# Altium schematic symbol library Components_UNO.SchLib: 36 symbols
Pins are listed as number, name and electrical type; pins without a type are passive.

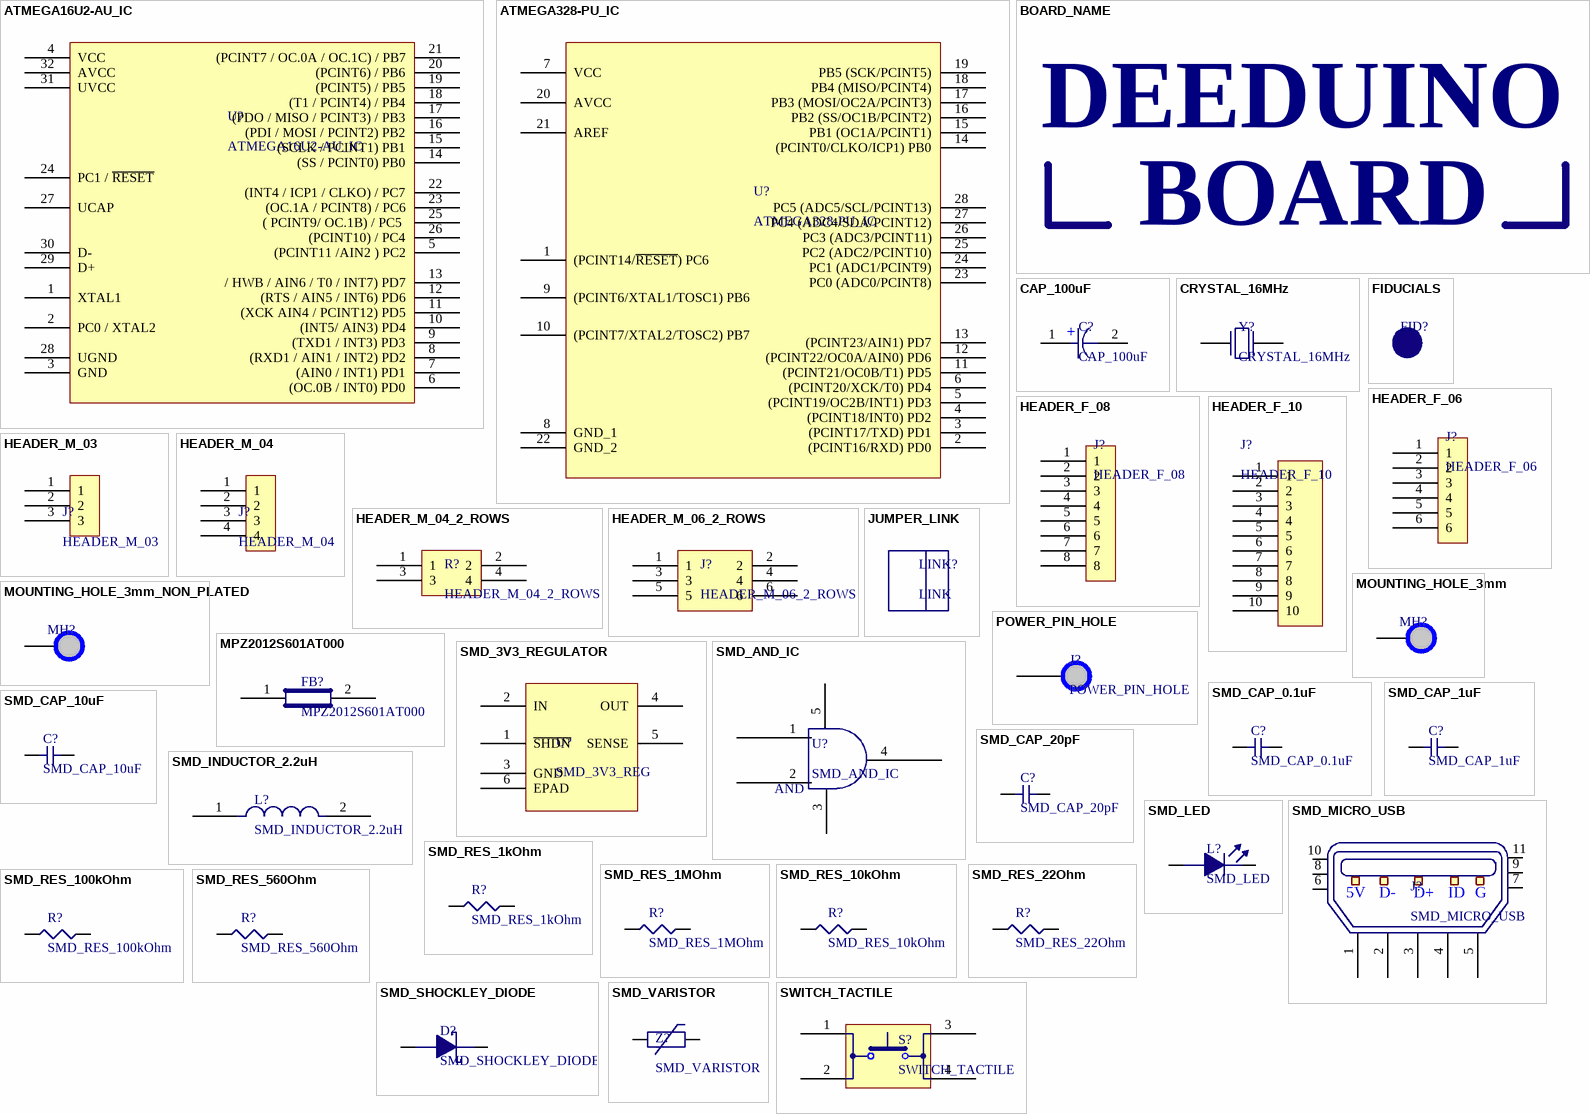
[diagram p0: symbols ATMEGA16U2-AU_IC to SWITCH_TACTILE]

## ATMEGA16U2-AU_IC
designator U?
Manufacturer: Microchip; Categories: Integrated Circuits (ICs); Core Processor: AVR; Core Size: 8-Bit; Speed: 16MHz; Connectivity: SPI, UART/USART, USB; Peripherals: Brown-out Detect/Reset, POR, PWM, WDT; Number of I/O: 22; Program Memory Size: 16KB (8K x 16); Program Memory Type: FLASH; EEPROM Size: 512 x 8; Voltage - Supply (Vcc/Vdd): 2.7V ~ 5.5V; Oscillator Type: Internal; Supplier 1: Digi-Key; Manufacturer Part Number: ATMEGA16U2-AU; Stock 1: 3450; Pricing 1: 1=2.52, 25=2.3176, 100=2.1012 (USD); Packaging: Tray; Part Status: Active; RAM Size: 512 x 8; Data Converters: -; Operating Temperature: -40°C ~ 85°C (TA); Package / Case: 32-TQFP; Supplier Device Package: 32-TQFP (7x7); Series: AVR® ATmega; Supplier Part Number 1: ATMEGA16U2-AU-ND
footprint ATMEGA16U2
pins: 1 XTAL1, 2 PC0 / XTAL2, 3 GND, 4 VCC, 5 (PCINT11 /AIN2 ) PC2, 6 (OC.0B / INT0) PD0, 7 (AIN0 / INT1) PD1, 8 (RXD1 / AIN1 / INT2) PD2, 9 (TXD1 / INT3) PD3, 10 (INT5/ AIN3) PD4, 11 (XCK AIN4 / PCINT12) PD5, 12 (RTS / AIN5 / INT6) PD6, 13 / HWB / AIN6 / T0 / INT7) PD7, 14 (SS / PCINT0) PB0, 15 (SCLK / PCINT1) PB1, 16 (PDI / MOSI / PCINT2) PB2, 17 (PDO / MISO / PCINT3) / PB3, 18 (T1 / PCINT4) / PB4, 19 (PCINT5) / PB5, 20 (PCINT6) / PB6, 21 (PCINT7 / OC.0A / OC.1C) / PB7, 22 (INT4 / ICP1 / CLKO) / PC7, 23 (OC.1A / PCINT8) / PC6, 24 PC1 / ~{RESET}, 25 ( PCINT9/ OC.1B) / PC5 , 26 (PCINT10) / PC4, 27 UCAP, 28 UGND hidden, 28 UGND, 29 D+, 30 D-, 31 UVCC, 32 AVCC

## ATMEGA328-PU_IC
designator U?
Manufacturer: Microchip / Atmel; Family Name: ATmega; Device Core: AVR; Data Bus Width: 8bit; Program Memory Size: 32 kB; Maximum Frequency: 20MHz; RAM Size: 1 kB, 2 kB; Number of PWM Units: 1; ADC Channels: 6; Typical Operating Supply Voltage: 1.8 → 5.5 V; ADCs: 6 x 10 bit; Number of Timers: 3; ADC Resolution: 10bit; Timer Resolution: 8 bit, 16 bit; Pulse Width Modulation: 1(6 Channel); Timers: 1 x 16 bit, 2 x 8 bit; Instruction Set Architecture: RISC; Program Memory Type: Flash; Supplier 1: Digi-Key; Manufacturer Part Number: ATMEGA328-PU; Stock 1: 6598; Pricing 1: 1=1.96, 25=1.7924, 100=1.6274 (USD); Package Type: PDIP; Mounting Type: Through Hole; Pin Count: 28; Number of SPI Channels: 1; Width: 7.49mm; Number of USART Channels: 1; Number of ADC Units: 1; Minimum Operating Temperature: -40 °C; Length: 34.8mm; Maximum Operating Temperature: +85 °C; Height: 4.572mm; Number of I2C Channels: 1; PWM Channels: 6; Dimensions: 34.8 x 7.49 x 4.572mm; ComponentLink1URL: http://www.rapidonline.com/pdf/73-4281.pdf; ComponentLink1Description: http://www.rapidonline.com/pdf/73-4281.pdf; ComponentLink2URL: http://www.farnell.com/datasheets/2047852.pdf; ComponentLink2Description: http://www.farnell.com/datasheets/2047852.pdf; Supplier Part Number 1: ATMEGA328-PU-ND
footprint ATMEGA328P
pins: 1 (PCINT14/~{RESET}) PC6, 2 (PCINT16/RXD) PD0, 3 (PCINT17/TXD) PD1, 4 (PCINT18/INT0) PD2, 5 (PCINT19/OC2B/INT1) PD3, 6 (PCINT20/XCK/T0) PD4, 7 VCC, 8 GND_1, 9 (PCINT6/XTAL1/TOSC1) PB6, 10 (PCINT7/XTAL2/TOSC2) PB7, 11 (PCINT21/OC0B/T1) PD5, 12 (PCINT22/OC0A/AIN0) PD6, 13 (PCINT23/AIN1) PD7, 14 (PCINT0/CLKO/ICP1) PB0, 15 PB1 (OC1A/PCINT1), 16 PB2 (SS/OC1B/PCINT2), 17 PB3 (MOSI/OC2A/PCINT3), 18 PB4 (MISO/PCINT4), 19 PB5 (SCK/PCINT5), 20 AVCC, 21 AREF, 22 GND_2, 23 PC0 (ADC0/PCINT8), 24 PC1 (ADC1/PCINT9), 25 PC2 (ADC2/PCINT10), 26 PC3 (ADC3/PCINT11), 27 PC4 (ADC4/SDA/PCINT12), 28 PC5 (ADC5/SCL/PCINT13)

## BOARD_NAME
designator *  (value not drawn)  (mechanical)
text: DEEDUINO; BOARD

## CAP_100uF
designator C?
Manufacturer: Nichicon; Manufacturer Part Number: UFW1C101MDD1TD; Dynamic Catalog: FW Series; Catalog Drawings: FW, KW Series Bottom_16 and 18 / FW, KW Series_18 x 35.5; Capacitance: 100µF; Tolerance: ±20%; Voltage Rating: 16V; Lifetime @ Temp.: 2000 Hrs @ 85°C; Ripple Current: 155mA; Other Names: 493-10975-1; Supplier 1: Digi-Key; Stock 1: 7837; Pricing 1: 1=0.24, 10=0.167, 100=0.0946, 500=0.0668, 1000=0.0584 (USD); Standard Package: 1; Category: Capacitors; Family: Aluminum Capacitors; Series: FW; Packaging: Cut Tape (CT); Operating Temperature: -40°C ~ 85°C; Applications: Audio; Lead Spacing: 0.079" (2.00mm); Size / Dimension: 0.197" Dia (5.00mm); Height - Seated (Max): 0.492" (12.50mm); Mounting Type: Through Hole; Package / Case: Radial, Can; Online Catalog: FW Series; ComponentLink1URL: http://nichicon-us.com/english/products/pdfs/e-ufw.pdf?src-supplier=Digi-Key; ComponentLink1Description: http://nichicon-us.com/english/products/pdfs/e-ufw.pdf?src-supplier=Digi-Key; ComponentLink2URL: https://gp1.wpc.edgecastcdn.net/00AC62/drawings/XCT-HMAN079CST.pdf?src-supplier=Digi-Key; ComponentLink2Description: https://gp1.wpc.edgecastcdn.net/00AC62/drawings/XCT-HMAN079CST.pdf?src-supplier=Digi-Key; Supplier Part Number 1: 493-10975-1-ND
footprint CAP_16V
pins: 1, 2
text: +

## CRYSTAL_16MHz
designator Y?
Manufacturer: ECS International; Manufacturer Part Number: ECS-160-20-4X; Brand: ECS; Case Height: 3.5 mm; Case Length: 11.35 mm; Case Width: 4.65 mm; Frequency: 16 MHz; Frequency Stability: 50 PPM; Load Capacitance: 20 pF; Tolerance: 30 PPM; Dimensions: 4.65 mm W x 11.35 mm L x 3.5 mm H; Factory Pack Quantity: 200; Package / Case: HC-49/US; Operating Temperature Range: - 10 C to + 70 C; Packaging: Bulk; Mounting Style: Through Hole; Product Category: Crystals; RoHS: Details; Termination Style: Radial; Series: HCS49USX; Type: Quartz Crystals; ComponentLink1URL: http://www.ecsxtal.com/store/pdf/partnumber4.pdf?src-supplier=Digi-Key; ComponentLink1Description: http://www.ecsxtal.com/store/pdf/partnumber4.pdf?src-supplier=Digi-Key; Supplier 1: Digi-Key; Supplier Part Number 1: 887-2014-ND
footprint CRYSTAL_16MHz
pins: 1, 2

## FIDUCIALS
designator FID?  (value not drawn)  (no BOM)
footprint FIDUCIALS

## HEADER_F_06
designator J?
Manufacturer: Harwin; Manufacturer Part Number: M20-7820646; Rad Hard: No; Pitch: 2.54 mm; Number of Contacts: 6; Gender: SKT; Supplier 1: Digi-Key; Stock 1: 3428; Pricing 1: 1=0.96, 36=0.7919, 108=0.726, 504=0.594, 1008=0.528, 5004=0.462, 10008=0.4389 (USD); Contact Plating: Tin; Type: Socket Strip; Number of Rows: 1; Termination Method: Solder; Category: Connector Headers and PCB Receptacles; Supplier Part Number 1: 952-1809-ND
footprint HEADER_F_06
pins: 1, 2, 3, 4, 5, 6

## HEADER_F_08
designator J?
Manufacturer: Sullins; Manufacturer Part Number: PPTC081LFBN-RC; Catalog Drawings: PPTC,PPPC Series Straight / PPTC,PPPC Series Footprint; Connector Type: Header; Number of Positions: 8; Number of Positions Loaded: All; Pitch: 0.100" (2.54mm); Dynamic Catalog: PP Series; Mating Products: S1143E-08-ND / - CONN HEADER 8POS .100 RT/A SMD / S1123E-08-ND / - CONN HEADER 8POS .100 RT/A SMD / S1133E-08-ND / - CONN HEADER 8POS .100 RT/A SMD / S1113E-08-ND / - CONN HEADER 8POS .100 RT/A SMD / S1043E-08-ND / - CONN HEADER 8POS .100 SINGLE SMD / S1023E-08-ND / - CONN HEADER 8POS .100 SINGLE SMD / S1033E-08-ND / - CONN HEADER 8POS .100 SINGLE SMD / S1013E-08-ND / - CONN HEADER 8POS .100 SINGLE SMD / S1321E-08-ND / - CONN HEADER .100 SINGL R/A 8POS / S1311E-08-ND / - CONN HEADER .100 SINGL R/A 8POS / More...; Other Names: S7006; Supplier 1: Digi-Key; Stock 1: 43662; Pricing 1: 1=0.65, 10=0.608, 400=0.4253, 800=0.3645, 1200=0.3341, 5200=0.2936, 10000=0.2925 (USD); Standard Package: 1,000; Category: Connectors, Interconnects; Family: Rectangular Connectors - Headers, Receptacles, Female Sockets; Contact Type: Female Socket; Number of Rows: 1; Mounting Type: Through Hole; Termination: Solder; Contact Finish: Tin; Color: Black; Packaging: Bulk; Supplier Part Number 1: S7006-ND
footprint HEADER_F_08
pins: 1, 2, 3, 4, 5, 6, 7, 8

## HEADER_F_10
designator J?
Manufacturer: Sullins; Manufacturer Part Number: PPTC101LFBN-RC; Catalog Drawings: PPTC,PPPC Series Straight / PPTC,PPPC Series Footprint; Connector Type: Header; Number of Positions: 10; Number of Positions Loaded: All; Pitch: 0.100" (2.54mm); Dynamic Catalog: PP Series; Mating Products: PEC10SBAN-ND / - CONN HEADER .100 SINGL R/A 10POS / S1143E-10-ND / - CONN HEADER 10POS .100 RT/A SMD / S1123E-10-ND / - CONN HEADER 10POS .100 RT/A SMD / S1133E-10-ND / - CONN HEADER 10POS .100 RT/A SMD / S1113E-10-ND / - CONN HEADER 10POS .100 RT/A SMD / S1043E-10-ND / - CONN HEADER 10PS .100 SINGLE SMD / S1023E-10-ND / - CONN HEADER 10PS .100 SINGLE SMD / S1033E-10-ND / - CONN HEADER 10PS .100 SINGLE SMD / S1013E-10-ND / - CONN HEADER 10PS .100 SINGLE SMD / S1321E-10-ND / - CONN HEADER .100 SINGL R/A 10POS / More; Other Names: S7008; Supplier 1: Digi-Key; Stock 1: 21645; Pricing 1: 1=0.65, 10=0.574, 320=0.45, 640=0.405, 1280=0.36, 5120=0.325 (USD); Standard Package: 1,000; Category: Connectors, Interconnects; Family: Rectangular Connectors - Headers, Receptacles, Female Sockets; Contact Type: Female Socket; Number of Rows: 1; Mounting Type: Through Hole; Termination: Solder; Contact Finish: Tin; Color: Black; Packaging: Bulk; Supplier Part Number 1: S7008-ND
footprint HEADER_F_10
pins: 1, 2, 3, 4, 5, 6, 7, 8, 9, 10

## HEADER_M_03
designator J?
Manufacturer: Wurth Electronics; Manufacturer Part Number: 61300311121; Connector Type: Header, Unshrouded; Number of Positions: 3; Number of Positions Loaded: All; Pitch: 0.100" (2.54mm); Supplier 1: Digi-Key; Stock 1: 135131; Pricing 1: 1=0.13, 10=0.106, 25=0.088, 50=0.074, 100=0.067, 1000=0.061 (USD); Category: Connectors, Interconnects; Family: Rectangular Connectors - Headers, Male Pins; Series: WR-PHD; Packaging: Bulk; Contact Type: Male Pin; Number of Rows: 1; Row Spacing: -; Contact Mating Length: 0.236" (6.00mm); Mounting Type: Through Hole; Termination: Solder; Fastening Type: -; Features: -; Contact Finish: Gold; Contact Finish Thickness: -; Color: Black; Supplier Part Number 1: 732-5316-ND
footprint HEADER_M_03
pins: 1, 2, 3

## HEADER_M_04
designator J?
Manufacturer: Wurth Electronics; Manufacturer Part Number: 61300311121; Connector Type: Header, Unshrouded; Number of Positions: 4; Number of Positions Loaded: All; Pitch: 0.100" (2.54mm); Category: Connectors, Interconnects; Family: Rectangular Connectors - Headers, Male Pins; Series: WR-PHD; Packaging: Bulk; Contact Type: Male Pin; Number of Rows: 1; Row Spacing: -; Contact Mating Length: 0.236" (6.00mm); Mounting Type: Through Hole; Termination: Solder; Fastening Type: -; Features: -; Contact Finish: Gold; Contact Finish Thickness: -; Color: Black; Supplier 1: Digi-Key; Supplier Part Number 1: 732-5317-ND
footprint HEADER_M_04
pins: 1, 2, 3, 4

## HEADER_M_04_2_ROWS
designator R?
Manufacturer: Harwin; Manufacturer Part Number: M20-9760246; Number of Positions / Contacts: 4; Pitch: 2.54 mm; Mounting Angle: Vertical; Current Rating: 3 A; Voltage Rating: 750 V; Supplier 1: Digi-Key; Stock 1: 6647; Pricing 1: 1=0.19, 10=0.179, 100=0.1102, 500=0.0912, 1000=0.0798, 5000=0.0684, 10000=0.0665 (USD); Mounting Style: Panel; Product Category: Headers & Wire Housings; RoHS: Details; Brand: Harwin; Series: M20; Product Type: Headers; Type: Pin Strip; Number of Positions: 4; Number of Rows: 2; Contact Plating: Tin; Housing Material: Nylon; Termination Style: Through Hole; Factory Pack Quantity: 1000; Supplier Part Number 1: 952-1772-ND
footprint HEADER_M_04_2_ROWS
pins: 1, 2, 3, 4

## HEADER_M_06_2_ROWS
designator J?
Manufacturer: Harwin; Manufacturer Part Number: M20-9980346; Connector Type: Header, Unshrouded, Breakaway; Number of Positions: 6; Number of Positions Loaded: All; Pitch: 0.100" (2.54mm); Supplier 1: Digi-Key; Stock 1: 42135; Pricing 1: 1=0.24, 10=0.229, 100=0.1586, 500=0.1342, 1000=0.1098, 5000=0.0976, 10000=0.0885 (USD); Category: Connectors, Interconnects; Family: Rectangular Connectors - Headers, Male Pins; Series: M20; Packaging: Bulk; Contact Type: Male Pin; Number of Rows: 2; Row Spacing: 0.100" (2.54mm); Contact Mating Length: 0.240" (6.10mm); Mounting Type: Through Hole; Termination: Solder; Fastening Type: -; Features: -; Contact Finish: Tin; Contact Finish Thickness: -; Color: Black; ComponentLink1URL: http://uk.rs-online.com/webdocs/1406/0900766b81406898.pdf?src-supplier=RSComponents; ComponentLink1Description: http://uk.rs-online.com/webdocs/1406/0900766b81406898.pdf?src-supplier=RSComponents; ComponentLink2URL: https://www.verical.com/server-webapp/html/getDatasheet?partID=483857&src-supplier=Verical; ComponentLink2Description: https://www.verical.com/server-webapp/html/getDatasheet?partID=483857&src-supplier=Verical; ComponentLink3URL: http://www.farnell.com/cad/112195.pdf?src-supplier=Element14; ComponentLink3Description: http://www.farnell.com/cad/112195.pdf?src-supplier=Element14; Supplier Part Number 1: 952-2121-ND
footprint HEADER_M_06_2_ROWS
pins: 1, 2, 3, 4, 5, 6

## JUMPER_LINK
designator LINK?, comment LINK  (mechanical)
Manufacturer: Sullins; Manufacturer Part Number: QPC02SXGN-RC; Gender: Female Sockets; Number of Positions or Pins (Grid): 2 (1 x 2); Pitch: 0.100" (2.54mm); Dynamic Catalog: Shunts and Jumpers - Sullins Connector Solutions; Other Names: S9337; Supplier 1: Digi-Key; Stock 1: 520116; Pricing 1: 1=0.1, 10=0.059, 25=0.044, 50=0.0378, 100=0.0365, 250=0.0315, 500=0.0302, 1000=0.0265, 2500=0.0239 (USD); Standard Package: 2,000; Category: Connectors, Interconnects; Family: Shunts, Jumpers; Type: Open Top; Height: 0.235" (5.97mm); Contact Finish: Gold; Contact Finish Thickness: Flash; Packaging: Bulk; ComponentLink1URL: https://s3.amazonaws.com/catalogspreads-pdf/PAGE128-129%20.100%20JUMPER.pdf?src-supplier=Digi-Key; ComponentLink1Description: https://s3.amazonaws.com/catalogspreads-pdf/PAGE128-129%20.100%20JUMPER.pdf?src-supplier=Digi-Key; Supplier Part Number 1: S9337-ND

## MOUNTING_HOLE_3mm
designator MH?  (value not drawn)  (no BOM)
footprint MOUNTING_HOLE_3mm
pins: 1

## MOUNTING_HOLE_3mm_NON_PLATED
designator MH?  (value not drawn)  (no BOM)
footprint MOUNTING_HOLE_3mm_NONPLATED
pins: 1

## MPZ2012S601AT000
designator FB?
Manufacturer: TDK; PCN Part Number: MMZ,MPS Series Oct/2014; Product Training Modules: EMC Components; Catalog Drawings: (MMZ,MPZ)2012 Series Top / (MMZ,MPZ)2012 Series Footprint / (MMZ,MPZ)2012 Series Side; Impedance @ Frequency: 600 Ohm @ 100MHz; Current Rating: 2A; DC Resistance (DCR): 100 mOhm Max; Filter Type: Differential Mode - Single; Online Catalog: MPZ2012 Series; Other Names: 445-2206-6; Supplier 1: Digi-Key; Manufacturer Part Number: MPZ2012S601AT000; Stock 1: 407717; Pricing 1: 1=0.11, 10=0.091, 25=0.0704, 50=0.0584, 100=0.0503, 250=0.0403, 500=0.0362, 1000=0.0302 (USD); Standard Package: 1; Category: Filters; Family: Ferrite Beads and Chips; Series: MPZ; Packaging: Digi-Reel®; Package / Case: 0805 (2012 Metric); Mounting Type: Surface Mount; Height (Max): 0.041" (1.05mm); Size / Dimension: 0.079" L x 0.049" W (2.00mm x 1.25mm); ComponentLink1URL: https://media.digikey.com/pdf/Data%20Sheets/TDK%20PDFs/MPZ_Series_Br.pdf?src-supplier=Digi-Key; ComponentLink1Description: https://media.digikey.com/pdf/Data%20Sheets/TDK%20PDFs/MPZ_Series_Br.pdf?src-supplier=Digi-Key; ComponentLink2URL: https://product.tdk.com/info/en/catalog/datasheets/beads_commercial_power_mpz2012_en.pdf?src-supplier=Digi-Key; ComponentLink2Description: https://product.tdk.com/info/en/catalog/datasheets/beads_commercial_power_mpz2012_en.pdf?src-supplier=Digi-Key; Supplier Part Number 1: 445-2206-1-ND
footprint CAP_SMD_0805
pins: 1, 2

## POWER_PIN_HOLE
designator J?
footprint POWER_HOLE
pins: 1

## SMD_3V3_REGULATOR
designator U?, comment SMD_3V3_REG
Manufacturer: Texas Instruments; Manufacturer Part Number: TL1963A-33DCQR; Voltage Regulator Type: LDO; Regulator Output Type: Fixed; Polarity Type: Positive; Number of Outputs: 1; Input Voltage (Min): 1.9V; Input Voltage: 20V; Output Voltage: 3.3V; Output Current: 1.5A; Load Regulation: 20mV; Line Regulation: 10mV; Supplier 1: Digi-Key; Stock 1: 5330; Pricing 1: 1=2.88, 10=2.589, 100=2.121, 500=1.8055, 1000=1.5228 (USD); Topology: LDO; Package Type: SOT-223; Packaging: Tape and Reel; Operating Temp Range: -40C to 125C; Operating Temperature Classification: Automotive; Pin Count: 5 +Tab; Mounting: Surface Mount; ComponentLink1URL: http://www.ti.com/lit/ds/symlink/tl1963a.pdf?src-supplier=Digi-Key; ComponentLink1Description: http://www.ti.com/lit/ds/symlink/tl1963a.pdf?src-supplier=Digi-Key; ComponentLink2URL: http://www.ti.com/lit/ds/symlink/tl1963a.pdf?src-supplier=Avnet+Europe; ComponentLink2Description: http://www.ti.com/lit/ds/symlink/tl1963a.pdf?src-supplier=Avnet+Europe; Supplier Part Number 1: 296-24534-1-ND
footprint 3V3_REGULATOR_SMD
pins: 1 ~{SHDN}, 2 IN, 3 GND, 4 OUT, 5 SENSE, 6 EPAD

## SMD_AND_IC
designator U?
Manufacturer: Texas Instruments; Manufacturer Part Number: SN74AHC1G09DBVR; Logic Type: AND Gate; Number of Circuits: 1; Number of Inputs: 2; Voltage - Supply: 2 V ~ 5.5 V; Current - Quiescent (Max): 1µA; Current - Output High, Low: -, 8mA; Logic Level - Low: 0.5 V ~ 1.65 V; Logic Level - High: 1.5 V ~ 3.85 V; Max Propagation Delay @ V, Max CL: 7.5ns @ 5V, 50pF; Dynamic Catalog: 74AHC; Other Names: 296-29202-6; Supplier 1: Digi-Key; Stock 1: 39673; Pricing 1: 1=0.43, 10=0.32, 100=0.1996, 500=0.1366, 1000=0.1051 (USD); Standard Package: 1; Category: Integrated Circuits (ICs); Series: 74AHC; Features: Open Drain; Operating Temperature: -55°C ~ 125°C; Mounting Type: Surface Mount; Supplier Device Package: SOT-23-5; Package / Case: SC-74A, SOT-753; Packaging: Digi-Reel®; ComponentLink1URL: http://www.ti.com/lit/ds/symlink/sn74ahc1g09.pdf?src-supplier=Digi-Key; ComponentLink1Description: http://www.ti.com/lit/ds/symlink/sn74ahc1g09.pdf?src-supplier=Digi-Key; Supplier Part Number 1: 296-29202-1-ND; Family: Logic - Gates and Inverters
footprint AND_SMD_IC
pins: 1, 2, 3, 4, 5
text: AND

## SMD_CAP_0.1uF
designator C?
Manufacturer: TDK; Manufacturer Part Number: C2012X7R1H104K125AE; PCN Part Number: CGA,CGJ,CGB,CEU Series 30/Nov/2012; Product Training Modules: C Series Soft Termination Capacitor Family; Featured Product: Soft Termination MLCC; Capacitance: 0.1µF; Tolerance: ±10%; Voltage - Rated: 50V; Temperature Coefficient: X7R; Dynamic Catalog: C Series, Soft Termination; Other Names: 445-15929-6 / C2012X7R1H104K125AEDKR / C2012X7R1H104K125AEDKR-ND; Supplier 1: Digi-Key; Stock 1: 120523; Pricing 1: 1=0.3, 10=0.206, 100=0.1169, 500=0.0825, 1000=0.0722 (USD); Failure Rate: Soft Termination; RoHS Information: RoHS Certificate-MLCC; Standard Package: 1; Category: Capacitors; Family: Ceramic Capacitors; Series: C; Packaging: Digi-Reel®; Mounting Type: Surface Mount, MLCC; Operating Temperature: -55°C ~ 125°C; Applications: Boardflex Sensitive; Ratings: -; Package / Case: 0805 (2012 Metric); Size / Dimension: 0.079" L x 0.047" W (2.00mm x 1.25mm); Height - Seated (Max): -; Thickness (Max): 0.057" (1.45mm); Lead Spacing: -; Features: Soft Termination; Lead Style: -; ComponentLink1URL: https://product.tdk.com/info/en/catalog/spec/mlccspec_commercial_soft_en.pdf?src-supplier=Digi-Key; ComponentLink1Description: https://product.tdk.com/info/en/catalog/spec/mlccspec_commercial_soft_en.pdf?src-supplier=Digi-Key; Supplier Part Number 1: 445-15929-1-ND
footprint CAP_SMD_0805
pins: 1, 2

## SMD_CAP_1uF
designator C?
Manufacturer: Samsung; Manufacturer Part Number: CL21B105KAFNNNE; Capacitance: 1 µF; Dielectric: X7R; Tolerance (%): ±10 %; Rated Voltage: 25 V; Supplier 1: Digi-Key; Stock 1: 1544554; Pricing 1: 1=0.11, 10=0.079, 100=0.0352, 500=0.0252, 1000=0.0198 (USD); Case Size/Dimension: 0805; ComponentLink1URL: https://media.digikey.com/pdf/Data%20Sheets/Samsung%20PDFs/CL_Series_MLCC_ds.pdf?src-supplier=Digi-Key; ComponentLink1Description: https://media.digikey.com/pdf/Data%20Sheets/Samsung%20PDFs/CL_Series_MLCC_ds.pdf?src-supplier=Digi-Key; ComponentLink2URL: https://www.verical.com/server-webapp/html/getDatasheet?partID=355205&src-supplier=Verical; ComponentLink2Description: https://www.verical.com/server-webapp/html/getDatasheet?partID=355205&src-supplier=Verical; Supplier Part Number 1: 1276-1066-1-ND
footprint CAP_SMD_0805
pins: 1, 2

## SMD_CAP_10uF
designator C?
Manufacturer: TDK; Manufacturer Part Number: C2012X5R1C106K085AC; PCN Part Number: MLCC Part Number Change 30/Nov/2012; Product Training Modules: C Series General Applications SEAT, CCV, and TVCL Design Tools Guide to Replacing an Electrolytic Capacitor with an MLCC; Catalog Drawings: C SERIES_2012-0805-1.0; Capacitance: 10µF; Tolerance: ±10%; Voltage - Rated: 16V; Temperature Coefficient: X5R; Online Catalog: C Series, General Purpose; Other Names: 445-7644-6; Supplier 1: Digi-Key; Stock 1: 2002540; Pricing 1: 1=0.23, 10=0.159, 100=0.0899, 500=0.0635, 1000=0.0556 (USD); RoHS Information: RoHS Certificate-MLCC; Standard Package: 1; Category: Capacitors; Family: Ceramic Capacitors; Series: C; Packaging: Digi-Reel®; Mounting Type: Surface Mount, MLCC; Operating Temperature: -55°C ~ 85°C; Applications: General Purpose; Ratings: -; Package / Case: 0805 (2012 Metric); Size / Dimension: 0.079" L x 0.049" W (2.00mm x 1.25mm); Height - Seated (Max): -; Thickness (Max): 0.037" (0.95mm); Lead Spacing: -; Features: -; Lead Style: -; ComponentLink1URL: http://www.mouser.com/ds/2/400/lcc_commercial_general_en-837201.pdf?src-supplier=Mouser; ComponentLink1Description: http://www.mouser.com/ds/2/400/lcc_commercial_general_en-837201.pdf?src-supplier=Mouser; ComponentLink2URL: http://www.farnell.com/datasheets/1913358.pdf?src-supplier=Element14; ComponentLink2Description: http://www.farnell.com/datasheets/1913358.pdf?src-supplier=Element14; ComponentLink3URL: http://www.farnell.com/datasheets/1744655.pdf?src-supplier=Element14; ComponentLink3Description: http://www.farnell.com/datasheets/1744655.pdf?src-supplier=Element14; ComponentLink4URL: https://product.tdk.com/info/en/documents/chara_sheet/C2012X5R1C106K085AC.pdf?src-supplier=Digi-Key; ComponentLink4Description: https://product.tdk.com/info/en/documents/chara_sheet/C2012X5R1C106K085AC.pdf?src-supplier=Digi-Key; ComponentLink5URL: http://product.tdk.com/capacitor/mlcc/en/documents/mlcc_commercial_general_en.pdf?src-supplier=Element14; ComponentLink5Description: http://product.tdk.com/capacitor/mlcc/en/documents/mlcc_commercial_general_en.pdf?src-supplier=Element14; Supplier Part Number 1: 445-7644-1-ND
footprint CAP_SMD_0805
pins: 1, 2

## SMD_CAP_20pF
designator C?
Manufacturer: TDK; Manufacturer Part Number: C0402C0G1C200J; Capacitance: 20pF; Tolerance: ±5%; Voltage - Rated: 16V; Temperature Coefficient: C0G, NP0; Other Names: 445-7167-2 C0402C0G1C200JT00NN; Standard Package: 20,000; Category: Capacitors; Family: Ceramic Capacitors; Series: C; Packaging: Tape & Reel (TR); Mounting Type: Surface Mount, MLCC; Operating Temperature: -55°C ~ 125°C; Applications: General Purpose; Ratings: -; Package / Case: 01005 (0402 Metric); Size / Dimension: 0.016" L x 0.008" W (0.40mm x 0.20mm); Height - Seated (Max): -; Thickness (Max): 0.009" (0.22mm); Lead Spacing: -; Features: -; Lead Style: -; ComponentLink1URL: https://media.digikey.com/pdf/Data%20Sheets/TDK%20PDFs/C_Series_GeneralAppl_B11.pdf?src-supplier=Digi-Key; ComponentLink1Description: https://media.digikey.com/pdf/Data%20Sheets/TDK%20PDFs/C_Series_GeneralAppl_B11.pdf?src-supplier=Digi-Key; Supplier 1: Digi-Key; Supplier Part Number 1: 399-19448-1-ND
footprint CAP_SMD_0805
pins: 1, 2

## SMD_INDUCTOR_2.2uH
designator L?
Manufacturer: KEMET; Manufacturer Part Number: L0805C2R2MDWIT; Case Height: 1.25 mm; Case Length: 2 mm; Inductance: 2.2 uH; Maximum DC Current: 430 mA; Maximum DC Resistance: 330 mOhms; Tolerance: 20 %; Self Resonant Frequency: 70 MHz; Shielding: Shielded; Test Frequency: 7.96 MHz; Type: Wire Wound Inductor - Ceramic or Ferrite; Supplier 1: Digikey; Stock 1: 2850; Pricing 1: 1=0.41, 10=0.356, 100=0.2542, 500=0.2135, 1000=0.1728 (USD); Brand: Kemet; Dimensions: 1.25 mm W x 2 mm L x 1.25 mm H; Case Width: 1.25 mm; Factory Pack Quantity: 3000; Operating Temperature Range: - 25 C to + 105 C; Package / Case: 0805 (2012 metric); Packaging: Reel; Product: Power Inductors; Product Category: Fixed Inductors; RoHS: Details; Termination Style: SMD/SMT; Series: L-DWI; ComponentLink1URL: http://datasheet.octopart.com/L0805C2R2MDWIT-Kemet-datasheet-153804.pdf?src-supplier=Farnell; ComponentLink1Description: http://datasheet.octopart.com/L0805C2R2MDWIT-Kemet-datasheet-153804.pdf?src-supplier=Farnell; Supplier Part Number 1: 399-17797-1-ND
footprint RES_SMD_0805
pins: 1, 2

## SMD_LED
designator L?
Manufacturer: Osram Opto; Manufacturer Part Number: LOL29K-H2K1-24-Z; Categories: Optoelectronics; Color: Orange; Configuration: Standard; Lens Color: White; Lens Transparency: Diffused; Millicandela Rating: 6.3mcd; Lens Style: Rectangle with Flat Top; Lens Size: 1.30mm x 0.80mm; Voltage - Forward (Vf) (Typ): 1.8V; Current - Test: 2mA; Viewing Angle: 160°; Wavelength - Dominant: 606nm; Wavelength - Peak: 610nm; Supplier 1: Digi-Key; Stock 1: 0; Series: SmartLED; Packaging: Digi-Reel®; Part Status: Active; Mounting Type: Surface Mount; Features: -; Package / Case: 0603 (1608 Metric); Supplier Device Package: 0603; Size / Dimension: 1.70mm L x 0.80mm W; Height (Max): 0.65mm; ComponentLink1URL: https://dammedia.osram.info/media/resource/hires/osram-dam-2493882/LO%20L29K.pdf?src-supplier=Digi-Key; ComponentLink1Description: https://dammedia.osram.info/media/resource/hires/osram-dam-2493882/LO%20L29K.pdf?src-supplier=Digi-Key; ComponentLink2URL: https://www.verical.com/server-webapp/html/getDatasheet?partID=693885&src-supplier=Verical; ComponentLink2Description: https://www.verical.com/server-webapp/html/getDatasheet?partID=693885&src-supplier=Verical; Supplier Part Number 1: 475-2740-2-ND
footprint LED_SMD
pins: 1 Cathode, 2 Anode

## SMD_MICRO_USB
designator J?
Manufacturer: Amphenol FCI; Manufacturer Part Number: 10118193-0001LF; Number of Contacts: 5 Contact; Gender: Female; Current Rating: 1.8 A; Brand: FCI; Connector Type: Micro USB Type B receptacle; Insulation Resistance: 1000 MOhms; Mounting Angle: Right; Supplier 1: Digi-Key; Stock 1: 164416; Pricing 1: 1=0.42, 10=0.393, 25=0.3536, 50=0.3144, 100=0.3013, 250=0.2751, 500=0.262 (USD); Product Category: USB Connectors; RoHS: Details; Product: Micro USB Type B Connectors; Standard: USB 2.0; Termination Style: SMD/SMT; Color: Black; Contact Material: Copper Alloy; Contact Plating: Gold; Flammability Rating: UL 94 V-0; Operating Temperature Range: - 55 C to + 85 C; Packaging: Reel; Factory Pack Quantity: 1200; ComponentLink1URL: https://cdn.amphenol-icc.com/media/wysiwyg/files/documentation/datasheet/inputoutput/io_usb_micro.pdf?src-supplier=Digi-Key; ComponentLink1Description: https://cdn.amphenol-icc.com/media/wysiwyg/files/documentation/datasheet/inputoutput/io_usb_micro.pdf?src-supplier=Digi-Key; ComponentLink2URL: https://cdn.amphenol-icc.com/media/wysiwyg/files/documentation/datasheet/inputoutput/io_usb_micro.pdf?src-supplier=Arrow; ComponentLink2Description: https://cdn.amphenol-icc.com/media/wysiwyg/files/documentation/datasheet/inputoutput/io_usb_micro.pdf?src-supplier=Arrow; ComponentLink3URL: http://www.amphenol-icc.com/media/wysiwyg/files/drawing/10118193.pdf?src-supplier=Digi-Key; ComponentLink3Description: http://www.amphenol-icc.com/media/wysiwyg/files/drawing/10118193.pdf?src-supplier=Digi-Key; ComponentLink4URL: https://cdn.amphenol-icc.com/media/wysiwyg/files/documentation/datasheet/inputoutput/io_usb_micro.pdf?src-supplier=Verical; ComponentLink4Description: https://cdn.amphenol-icc.com/media/wysiwyg/files/documentation/datasheet/inputoutput/io_usb_micro.pdf?src-supplier=Verical; ComponentLink5URL: https://cdn.amphenol-icc.com/media/wysiwyg/files/documentation/datasheet/inputoutput/io_usb_micro.pdf?src-supplier=Allied+Electronics; ComponentLink5Description: https://cdn.amphenol-icc.com/media/wysiwyg/files/documentation/datasheet/inputoutput/io_usb_micro.pdf?src-supplier=Allied+Electronics; ComponentLink6URL: https://cdn.amphenol-icc.com/media/wysiwyg/files/documentation/datasheet/inputoutput/io_usb_micro.pdf?src-supplier=Mouser; ComponentLink6Description: https://cdn.amphenol-icc.com/media/wysiwyg/files/documentation/datasheet/inputoutput/io_usb_micro.pdf?src-supplier=Mouser; Supplier Part Number 1: 609-4616-6-ND
footprint MICRO_USB_SMD
pins: 1, 2, 3, 4, 5, 6, 7, 8, 9, 10, 11
text: 5V; D-; D+; ID; G

## SMD_RES_1kOhm
designator R?
Manufacturer: Yageo; Manufacturer Part Number: RC0805FR-071KL; Resistance: 1 kOhms; Tolerance: 1 %; Power Rating: 125 mW (1/8 W); Voltage Rating: 150 V; Temperature Coefficient: 100 PPM / C; Supplier 1: Digi-Key; Stock 1: 29090533; Pricing 1: 1=0.1, 10=0.042, 100=0.017, 1000=0.0076, 2500=0.0066 (USD); Termination Style: SMD/SMT; Product: Thick Film Resistors General Purpose; Case Code - in: 0805; Case Code - mm: 2012; Series: RC; Operating Temperature Range: - 55 C to + 155 C; Packaging: Reel; ComponentLink1URL: http://www.yageo.com/documents/recent/PYu-RC_Group_51_RoHS_L_10.pdf?src-supplier=Digi-Key; ComponentLink1Description: http://www.yageo.com/documents/recent/PYu-RC_Group_51_RoHS_L_10.pdf?src-supplier=Digi-Key; ComponentLink2URL: http://documents.rs-components.com/techlib://itc_doclist_GB.htm?stockno=6183583&src-supplier=RSComponents; ComponentLink2Description: http://documents.rs-components.com/techlib://itc_doclist_GB.htm?stockno=6183583&src-supplier=RSComponents; ComponentLink3URL: http://www.farnell.com/datasheets/1686128.pdf?src-supplier=Element14; ComponentLink3Description: http://www.farnell.com/datasheets/1686128.pdf?src-supplier=Element14; ComponentLink4URL: http://www.yageo.ru/pdf/RC0805.pdf?src-supplier=Future+Electronics; ComponentLink4Description: http://www.yageo.ru/pdf/RC0805.pdf?src-supplier=Future+Electronics; ComponentLink5URL: http://www.farnell.com/datasheets/2167052.pdf?src-supplier=Element14; ComponentLink5Description: http://www.farnell.com/datasheets/2167052.pdf?src-supplier=Element14; Supplier Part Number 1: 311-1.00KCRCT-ND
footprint RES_SMD_0805
pins: 1, 2

## SMD_RES_1MOhm
designator R?
Manufacturer: Yageo; Manufacturer Part Number: RC0805FR-071ML; Resistance: 1 MOhms; Tolerance: 1 %; Power Rating: 125 mW (1/8 W); Voltage Rating: 150 V; Temperature Coefficient: 100 PPM / C; Supplier 1: Digi-Key; Stock 1: 6452116; Pricing 1: 1=0.1, 10=0.042, 100=0.017, 1000=0.0076, 2500=0.0066 (USD); Termination Style: SMD/SMT; Product: Thick Film Resistors General Purpose; Case Code - in: 0805; Case Code - mm: 2012; Series: RC; Operating Temperature Range: - 55 C to + 155 C; Packaging: Reel; ComponentLink1URL: http://www.yageo.com/documents/recent/PYu-RC_Group_51_RoHS_L_10.pdf?src-supplier=Digi-Key; ComponentLink1Description: http://www.yageo.com/documents/recent/PYu-RC_Group_51_RoHS_L_10.pdf?src-supplier=Digi-Key; ComponentLink2URL: http://documents.rs-components.com/techlib://itc_doclist_GB.htm?stockno=6183729&src-supplier=RSComponents; ComponentLink2Description: http://documents.rs-components.com/techlib://itc_doclist_GB.htm?stockno=6183729&src-supplier=RSComponents; ComponentLink3URL: http://www.yageo.ru/pdf/RC0805.pdf?src-supplier=Future+Electronics; ComponentLink3Description: http://www.yageo.ru/pdf/RC0805.pdf?src-supplier=Future+Electronics; ComponentLink4URL: http://www.yageo.com/documents/recent/PYu-RC_Group_51_RoHS_L_9.pdf?src-supplier=Mouser; ComponentLink4Description: http://www.yageo.com/documents/recent/PYu-RC_Group_51_RoHS_L_9.pdf?src-supplier=Mouser; Supplier Part Number 1: 311-1.00MCRCT-ND
footprint RES_SMD_0805
pins: 1, 2

## SMD_RES_10kOhm
designator R?
Manufacturer: TDK; Manufacturer Part Number: NTCG203NH103JT1; Resistance in Ohms @ 25°C: 10k; Resistance Tolerance: ±5%; B Value Tolerance: ±3%; B25/50: 3590K; B25/85: 3650K; Power - Max: 230mW; Supplier 1: Digikey; Stock 1: 1431; Pricing 1: 1=0.22, 5=0.208, 10=0.184, 25=0.1696, 50=0.1358, 100=0.1164, 500=0.1019, 1000=0.0873 (USD); Category: Sensors, Transducers; Family: Thermistors - NTC; Series: NTCG; Packaging: Tape & Reel (TR); B0/50: -; B25/75: -; B25/100: -; Operating Temperature: -40°C ~ 125°C; Length - Lead Wire: -; Mounting Type: Surface Mount; Package / Case: 0805 (2012 Metric); Supplier Part Number 1: 445-175460-1-ND
footprint RES_SMD_0805
pins: 1, 2

## SMD_RES_22Ohm
designator R?
Manufacturer: TE Connectivity; Manufacturer Part Number: 1623707-2; Resistance (Ohms): 22; Power (Watts): 0.1W, 1/10W; Temperature Coefficient: ±200ppm/°C; Tolerance: 0%, -30%; Other Names: TCR0805P22R; Supplier 1: Digi-Key; Stock 1: 0; Pricing 1: 5000=0.0232 (USD); RoHS Information: 1623707-2 Statement of Compliance; Standard Package: 5,000; Category: Resistors; Family: Chip Resistor - Surface Mount; Series: TCR, Neohm; Composition: Thick Film; Package / Case: 0805 (2012 Metric); Supplier Device Package: 0805; Size / Dimension: 0.079" L x 0.049" W (2.00mm x 1.25mm); Height: 0.026" (0.65mm); Number of Terminations: 2; Packaging: Tape & Reel (TR); ComponentLink1URL: http://www.te.com/commerce/DocumentDelivery/DDEController?Action=showdoc&DocId=Data+Sheet%7F1773287%7FA%7Fpdf%7FEnglish%7FENG_DS_1773287_A.pdf%7F5-1623707-7&src-supplier=Avnet; ComponentLink1Description: http://www.te.com/commerce/DocumentDelivery/DDEController?Action=showdoc&DocId=Data+Sheet%7F1773287%7FA%7Fpdf%7FEnglish%7FENG_DS_1773287_A.pdf%7F5-1623707-7&src-supplier=Avnet; ComponentLink2URL: http://www.te.com/commerce/DocumentDelivery/DDEController?Action=srchrtrv&DocNm=1773287&DocType=DS&DocLang=English&src-supplier=Digi-Key; ComponentLink2Description: http://www.te.com/commerce/DocumentDelivery/DDEController?Action=srchrtrv&DocNm=1773287&DocType=DS&DocLang=English&src-supplier=Digi-Key; Supplier Part Number 1: TCR0805P22R-ND
footprint RES_SMD_0805
pins: 1, 2

## SMD_RES_100kOhm
designator R?
Manufacturer: Panasonic; Manufacturer Part Number: ERA6AEB104V; Rated Power: 0.125 W; Resistance: 100 kO; Tolerance (%): ±0.1 %; Temp Coefficient: ±25 ppm/°C; Supplier 1: Digi-Key; Stock 1: 529935; Pricing 1: 1=0.36, 10=0.302, 100=0.1182, 1000=0.0495, 2500=0.0454 (USD); Size Code: 0805; ComponentLink1URL: https://www.distrelec.biz/Web/Downloads/_t/ds/ERA_eng_tds.pdf?mime=application%2Fpdf&src-supplier=Distrelec; ComponentLink1Description: https://www.distrelec.biz/Web/Downloads/_t/ds/ERA_eng_tds.pdf?mime=application%2Fpdf&src-supplier=Distrelec; ComponentLink2URL: http://www.farnell.com/datasheets/485442.pdf?src-supplier=Element14; ComponentLink2Description: http://www.farnell.com/datasheets/485442.pdf?src-supplier=Element14; ComponentLink3URL: http://www.farnell.com/datasheets/2059650.pdf?src-supplier=Farnell; ComponentLink3Description: http://www.farnell.com/datasheets/2059650.pdf?src-supplier=Farnell; ComponentLink4URL: http://uk.rs-online.com/webdocs/0bee/0900766b80beefcc.pdf?src-supplier=RSComponents; ComponentLink4Description: http://uk.rs-online.com/webdocs/0bee/0900766b80beefcc.pdf?src-supplier=RSComponents; ComponentLink5URL: http://industrial.panasonic.com/www-data/pdf/AOA0000/AOA0000CE26.pdf?src-supplier=Avnet+Europe; ComponentLink5Description: http://industrial.panasonic.com/www-data/pdf/AOA0000/AOA0000CE26.pdf?src-supplier=Avnet+Europe; ComponentLink6URL: https://www.alliedelec.com/m/d/b6b0537e86f421aa7f5975bb1d8f429a.pdf?src-supplier=Allied+Electronics; ComponentLink6Description: https://www.alliedelec.com/m/d/b6b0537e86f421aa7f5975bb1d8f429a.pdf?src-supplier=Allied+Electronics; ComponentLink7URL: http://www.farnell.com/datasheets/485442.pdf?src-supplier=Farnell; ComponentLink7Description: http://www.farnell.com/datasheets/485442.pdf?src-supplier=Farnell; ComponentLink8URL: http://industrial.panasonic.com/www-data/pdf/AOA0000/AOA0000CE26.pdf?src-supplier=Future+Electronics; ComponentLink8Description: http://industrial.panasonic.com/www-data/pdf/AOA0000/AOA0000CE26.pdf?src-supplier=Future+Electronics; ComponentLink9URL: http://industrial.panasonic.com/www-data/pdf/AOA0000/AOA0000CE26.pdf?src-supplier=Avnet; ComponentLink9Description: http://industrial.panasonic.com/www-data/pdf/AOA0000/AOA0000CE26.pdf?src-supplier=Avnet; ComponentLink10URL: https://produktinfo.conrad.com/datenblaetter/450000-474999/453651-da-01-en-WIDERSTAND_0805_ERA.pdf?src-supplier=Conrad; ComponentLink10Description: https://produktinfo.conrad.com/datenblaetter/450000-474999/453651-da-01-en-WIDERSTAND_0805_ERA.pdf?src-supplier=Conrad; Supplier Part Number 1: P100KDACT-ND
footprint RES_SMD_0805
pins: 1, 2

## SMD_RES_560Ohm
designator R?
Manufacturer: TE Connectivity; Manufacturer Part Number: 1623252-1; Resistance (Ohms): 560; Power (Watts): 0.125W, 1/8W; Temperature Coefficient: ±100ppm/°C; Tolerance: ±1%; Other Names: CRG0805F560R; Supplier 1: Digi-Key; Stock 1: 21680; Pricing 1: 1=0.1, 10=0.052, 100=0.021, 1000=0.0094, 2500=0.0082 (USD); RoHS Information: 1623252-1 Statement of Compliance; Standard Package: 5,000; Category: Resistors; Family: Chip Resistor - Surface Mount; Series: CRG, Neohm; Composition: Thick Film; Package / Case: 0805 (2012 Metric); Supplier Device Package: 0805; Size / Dimension: 0.079" L x 0.049" W (2.00mm x 1.25mm); Height: 0.026" (0.65mm); Number of Terminations: 2; Packaging: Tape & Reel (TR); ComponentLink1URL: http://www.te.com/commerce/DocumentDelivery/DDEController?Action=srchrtrv&DocNm=1773204&DocType=DS&DocLang=English&src-supplier=Digi-Key; ComponentLink1Description: http://www.te.com/commerce/DocumentDelivery/DDEController?Action=srchrtrv&DocNm=1773204&DocType=DS&DocLang=English&src-supplier=Digi-Key; ComponentLink2URL: http://www.te.com/commerce/DocumentDelivery/DDEController?Action=showdoc&DocId=Data+Sheet%7F1773204%7FF%7Fpdf%7FEnglish%7FENG_DS_1773204_F.pdf&src-supplier=Avnet+Europe; ComponentLink2Description: http://www.te.com/commerce/DocumentDelivery/DDEController?Action=showdoc&DocId=Data+Sheet%7F1773204%7FF%7Fpdf%7FEnglish%7FENG_DS_1773204_F.pdf&src-supplier=Avnet+Europe; ComponentLink3URL: http://www.te.com/commerce/DocumentDelivery/DDEController?Action=showdoc&DocId=Data+Sheet%7F1773204%7FF%7Fpdf%7FEnglish%7FENG_DS_1773204_F.pdf&src-supplier=Avnet; ComponentLink3Description: http://www.te.com/commerce/DocumentDelivery/DDEController?Action=showdoc&DocId=Data+Sheet%7F1773204%7FF%7Fpdf%7FEnglish%7FENG_DS_1773204_F.pdf&src-supplier=Avnet; Supplier Part Number 1: A126376CT-ND
footprint RES_SMD_0805
pins: 1, 2

## SMD_SHOCKLEY_DIODE
designator D?
Manufacturer: ON Semiconductor; Manufacturer Part Number: NSVBAT54HT1G; Diode Type: Schottky; Voltage - DC Reverse (Vr) (Max): 30V; Current - Average Rectified (Io): 200mA (DC); Voltage - Forward (Vf) (Max) @ If: 800mV @ 100mA; Speed: Small Signal =; Reverse Recovery Time (trr): 5ns; Current - Reverse Leakage @ Vr: 2µA @ 25V; Capacitance @ Vr, F: 10pF @ 1V, 1MHz; Supplier 1: Digi-Key; Stock 1: 32223; Pricing 1: 1=0.35, 10=0.288, 100=0.1958, 500=0.1468, 1000=0.1101 (USD); Standard Package: 3,000; Category: Discrete Semiconductor Products; Family: Diodes, Rectifiers - Single; Mounting Type: Surface Mount; Package / Case: SC-76, SOD-323; Supplier Device Package: SOD-323; Packaging: Tape & Reel (TR); ComponentLink1URL: http://www.onsemi.com/pub/Collateral/BAT54HT1-D.PDF?src-supplier=Digi-Key; ComponentLink1Description: http://www.onsemi.com/pub/Collateral/BAT54HT1-D.PDF?src-supplier=Digi-Key; ComponentLink2URL: http://www.onsemi.com/pub_link/Collateral/BAT54HT1-D.PDF?src-supplier=Avnet+Europe; ComponentLink2Description: http://www.onsemi.com/pub_link/Collateral/BAT54HT1-D.PDF?src-supplier=Avnet+Europe; Supplier Part Number 1: NSVBAT54HT1GOSCT-ND
footprint SHOCKLEY_DIODE_SMD
pins: 1 Cathode, 2 Anode

## SMD_VARISTOR
designator Z?
Manufacturer: Bourns; Manufacturer Part Number: CG0603MLC-05E; Capacitance: 0.5 pF; Channels: 1 Channel; Case Width: 0.8 mm; Operating Voltage: 5 V; Clamping Voltage: 20 V; Current Rating: 50 nA; Supplier 1: Digi-Key; Stock 1: 260922; Pricing 1: 1=0.51, 10=0.359, 25=0.2944, 100=0.2357, 250=0.1714, 500=0.1393, 1000=0.1071, 2500=0.0964 (USD); Brand: Bourns; Case Code - in: 0603; Case Code - mm: 1608; Operating Temperature Range: - 40 C to + 85 C; Dimensions: 0.8 mm W x 1.6 mm L x 0.8 mm H; Mounting: SMD/SMT; Factory Pack Quantity: 5000; Product Category: Varistors; RoHS: Details; Product: MLV; Voltage Rating DC: 5 V; Termination Style: SMD/SMT; Packaging: Reel; Package / Case: 0603 (1608 metric); Series: MLC; Tradename: ChipGuard; Voltage: 5 V; Width: 0.8 mm; ComponentLink1URL: https://www.bourns.com/docs/Product-Datasheets/MLC.pdf?src-supplier=Digi-Key; ComponentLink1Description: https://www.bourns.com/docs/Product-Datasheets/MLC.pdf?src-supplier=Digi-Key; ComponentLink2URL: http://www.farnell.com/datasheets/1785244.pdf?src-supplier=Element14; ComponentLink2Description: http://www.farnell.com/datasheets/1785244.pdf?src-supplier=Element14; ComponentLink3URL: http://www.jameco.com/Jameco/Products/ProdDS/1163231.pdf?src-supplier=Jameco; ComponentLink3Description: http://www.jameco.com/Jameco/Products/ProdDS/1163231.pdf?src-supplier=Jameco; ComponentLink4URL: http://www.bourns.com/docs/Product-Datasheets/MLC.pdf?src-supplier=Avnet+Europe; ComponentLink4Description: http://www.bourns.com/docs/Product-Datasheets/MLC.pdf?src-supplier=Avnet+Europe; ComponentLink5URL: http://www.bourns.com/docs/Product-Datasheets/MLC.pdf?src-supplier=Avnet; ComponentLink5Description: http://www.bourns.com/docs/Product-Datasheets/MLC.pdf?src-supplier=Avnet; Supplier Part Number 1: CG0603MLC-05ECT-ND
footprint RES_SMD_0603
pins: 1, 2

## SWITCH_TACTILE
designator S?
Manufacturer: TE Connectivity Alcoswitch; Manufacturer Part Number: 1825910-6; Actuator Color: Black; Actuator Length: 1.4 mm; Actuator Material: Polybutylene Terephthalate; Body Orientation: Straight; Actuator Style: Round Button; Bushing Type: Unthreaded; Electrical Life: 100000 Cycles; Dielectric Strength: 500 VAC; Contact Rating @ Voltage: 0.05A@24VDC; Function: Momentary Contact; Maximum DC Voltage Rating: 24 V; Pole Throw Configuration: SPST; Maximum Contact Resistance: 100 mOhm; Illumination: N/R; Switch Configuration: OFF (ON); Supplier 1: Digi-Key; Stock 1: 108186; Pricing 1: 1=0.1, 10=0.093, 25=0.0892, 50=0.0862, 100=0.0814, 250=0.0766, 500=0.0734, 1000=0.0558, 5000=0.0463 (USD); Base Material: N/A; Family: 1825910; Contact Material: Copper Alloy; Contact Plating: Silver; Dimension: 5.99 x 5 mm; Part No: 1825910-6; RoHS: Yes; Maximum AC Voltage Rating: N/A; Mechanical Life: 100000 Cycles; Packaging: N/A; Housing Material: N/A; Product Weight: N/A; Mounting: Through Hole; Minimum Insulation Resistance: 100 MOhm; Operating Temperature: -35 to 85 C; Terminal Type: PC Pins; Seal Description: N/A; Seal Location: N/A; Thread Size: N/R; ComponentLink1URL: http://www.onlinecomponents.com/productFiles/mf-AMP/1825910-6rqpn1825910-6.pdf?src-supplier=Onlinecomponents.com; ComponentLink1Description: http://www.onlinecomponents.com/productFiles/mf-AMP/1825910-6rqpn1825910-6.pdf?src-supplier=Onlinecomponents.com; ComponentLink2URL: http://www.te.com/commerce/DocumentDelivery/DDEController?Action=srchrtrv&DocNm=1825910&DocType=Customer+Drawing&DocLang=English&src-supplier=Verical; ComponentLink2Description: http://www.te.com/commerce/DocumentDelivery/DDEController?Action=srchrtrv&DocNm=1825910&DocType=Customer+Drawing&DocLang=English&src-supplier=Verical; Supplier Part Number 1: 450-1650-ND
footprint SWITCH_TACTILE
pins: 1, 2, 3, 4